# Altium integrated library MM8108-MF15457.IntLib: 1 symbol
Pins are listed as number, name and electrical type; pins without a type are passive.

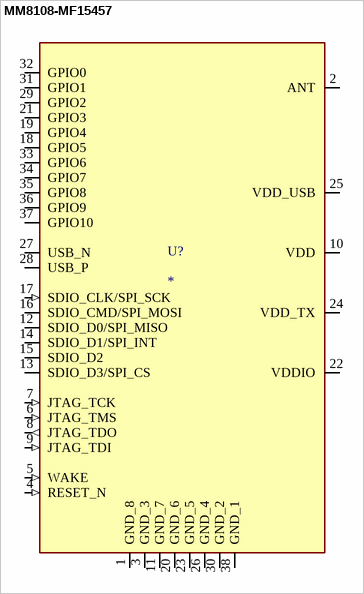
[diagram p0: symbol MM8108-MF15457]

## MM8108-MF15457
designator U?
RF System on a Chip - SoC MM8108, Wi-Fi HaLow Reference Module. 26dBm. FCC, IC, CE and Telec certified; MF: Morse Micro; MP: MM8108-MF15457; SnapEDA_Link: https://www.snapeda.com/parts/MM8108-MF15457/Morse+Micro/view-part/?ref=snap; Package: None; Value: *; Check_prices: https://www.snapeda.com/parts/MM8108-MF15457/Morse+Micro/view-part/?ref=eda
footprint MF15
pins: 1 GND_8 (power), 2 ANT (power), 3 GND_3 (power), 4 RESET_N (in), 5 WAKE (in), 6 JTAG_TMS (in), 7 JTAG_TCK (in), 8 JTAG_TDO (out), 9 JTAG_TDI (in), 10 VDD (power), 11 GND_7 (power), 12 SDIO_D0/SPI_MISO (oc), 13 SDIO_D3/SPI_CS (oc), 14 SDIO_D1/SPI_INT (oc), 15 SDIO_D2 (oc), 16 SDIO_CMD/SPI_MOSI (oc), 17 SDIO_CLK/SPI_SCK (in), 18 GPIO5 (io), 19 GPIO4 (io), 20 GND_6 (power), 21 GPIO3 (io), 22 VDDIO (power), 23 GND_5 (power), 24 VDD_TX (power), 25 VDD_USB (power), 26 GND_4 (power), 27 USB_N (io), 28 USB_P (io), 29 GPIO2 (io), 30 GND_2 (power), 31 GPIO1 (io), 32 GPIO0 (io), 33 GPIO6 (io), 34 GPIO7 (io), 35 GPIO8 (io), 36 GPIO9 (io), 37 GPIO10 (io), 38 GND_1 (power)